# Altium footprint library ATK-2014-09-12.PcbLib: 436 footprints (part 28 of 28)
Each footprint in its own frame and in the unit in brackets; x right, y up, seen from the top. Pads: shape width x height; smd on the part's side, far side on the other; paste and mask are expansions set on the pad; w line width, h text height; cw(c..) or ccw(c..) is an arc to the next point about the centre after c.
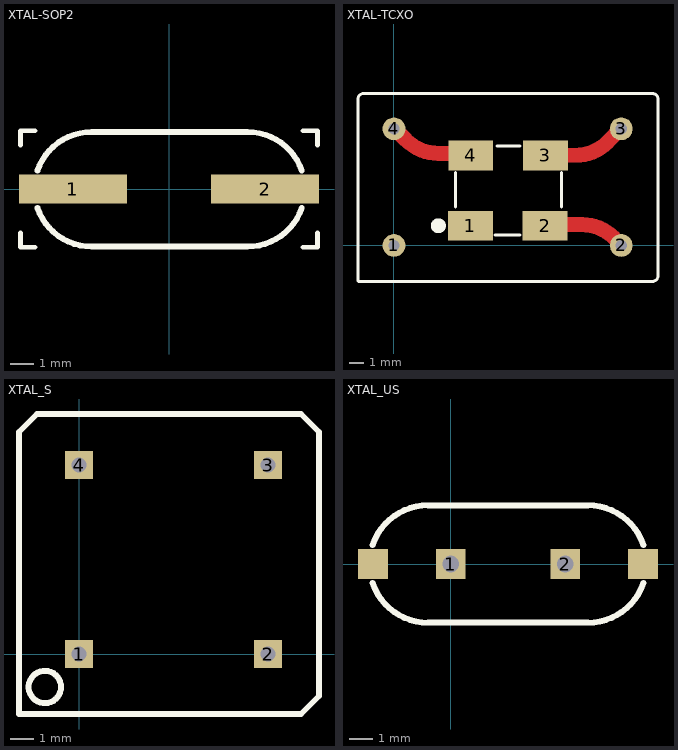
[diagram p27: the footprints below, top view; thin cyan lines are the x and y axes]

## XTAL-SOP2 [mm]
pads (2):
  rect 4.7x1.27 smd: 1(-4.191,0) 2(4.191,0)
Top Overlay:
  lines w0.2: -6.477,-1.905 -6.477,-2.54 -5.842,-2.54 ; -6.477,1.905 -6.477,2.54 -5.842,2.54 ; 5.842,-2.54 6.477,-2.54 6.477,-1.905 ; 5.842,2.54 6.477,2.54 6.477,1.905
  lines w0.254: -5.738,-0.821 ccw(c-3.373,-0.012) -3.373,-2.512 ; -5.738,0.797 cw(c-3.373,-0.012) -3.373,2.488 3.427,2.488 cw(c3.427,-0.012) 5.792,0.797 ; -3.378,-2.512 3.427,-2.512 ccw(c3.427,-0.012) 5.792,-0.821

## XTAL-TCXO [mil]
pads (8):
  round 60 hole 30: 1(0,0) 2(600,0) 3(600,308) 4(0,308)
  rect 118.11x78.74 smd: 1(202,52) 2(398.85,52) 3(399.85,237.67) 4(203,237.67)
Top Layer:
  lines w39.37: 0,310 1,309 3.5,306.5 31.64,278.36 ccw(c117,363.71) 117,243 202,243 ; 402,55 496,55 cw(c496,-65.71) 581.36,19.64 ; 412,238 479,238 ccw(c479,358.71) 564.36,273.36 599.5,308.5 600,309 603,312
Top Overlay:
  circle w19.68: c117.16,52 r9.84
  lines w7.87: -95,-94 -95,388 ; -95,387 cw(c-80.69,386.7) -80.69,401.01 ; -94,-95 681,-95 ; -80,401 682,401 ; 682.69,-95.01 ccw(c682.69,-80.7) 697,-81 ; 683,401 cw(c682.7,386.69) 697.01,386.69 ; 697,-79 697,386
  lines w8: 162,102 162,192 ; 267,27 332,27 ; 272,262 332,262 ; 442,102 442,192

## XTAL_S [mm] "XTAL_OSC"
height 3
pads (4):
  rect 1.2x1.2 hole 0.635: 1(0,0) 2(8.001,0) 3(8.001,8.001) 4(0,8.001)
Top Overlay:
  circle w0.254: c-1.446,-1.397 r0.684
  lines w0.254: -2.54,-2.54 9.398,-2.54 10.16,-1.778 10.16,9.398 9.398,10.16 -1.778,10.16 -2.54,9.398 -2.54,8.509 -2.54,-2.54

## XTAL_US [mil]
pads (4):
  rect 50x50 hole 28: 1(0,0) 2(192.13,0)
  rect 50x50 smd: ""(-130.32,0) ""(322.44,0)
Top Overlay:
  lines w10: -130.92,-31.85 ccw(c-37.79,0) -37.79,-98.42 ; -130.92,31.85 cw(c-37.79,0) -37.79,98.43 ; -38,98.42 229.92,98.43 cw(c229.92,0) 323.05,31.85 ; -37.8,-98.43 229.92,-98.42 ccw(c229.92,0) 323.05,-31.85